# Altium schematic symbol library TPS7A49.SchLib: 1 symbol
Pins are listed as number, name and electrical type; pins without a type are passive.

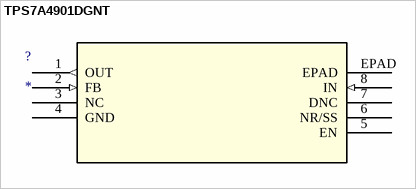
[diagram p0: symbol TPS7A4901DGNT]

## TPS7A4901DGNT
designator ?
Imported; Manufacturer_Part_Number: TPS7A4901DGNT; GENERIC_PART_NUMBER: TPS7A4901; Vendor: Texas Instruments; PACKAGE_DESIGNATOR: DGN; PIN_COUNT: 8; FAMILY_NAME: SINGLE CHANNEL LDO; INDUSTRY_STD_PKG_TYPE: MSOP-PowerPAD; 3D_Library_Name: TI_AllParts_2012-12-25; C: Copyright (C) 2015 Accelerated Designs. All rights reserved; Datasheet URL: http://www.ti.com/lit/gpn/TPS7A4901; Manufacturer: Texas Instruments; Copyright: Copyright (C) 2015 Accelerated Designs. All rights reserved; Value: Value; Type: Type; RefDes: RefDes
footprint DGN8_1P89X1P57
pins: 1 OUT (out), 2 FB (in), 3 NC, 4 GND (power), 5 EN, 6 NR/SS, 7 DNC, 8 IN (in), EPAD